# Altium footprint library SD Card.PcbLib: 2 footprints
Each footprint in its own frame and in the unit in brackets; x right, y up, seen from the top. Pads: shape width x height; smd on the part's side, far side on the other; paste and mask are expansions set on the pad; w line width, h text height; cw(c..) or ccw(c..) is an arc to the next point about the centre after c.
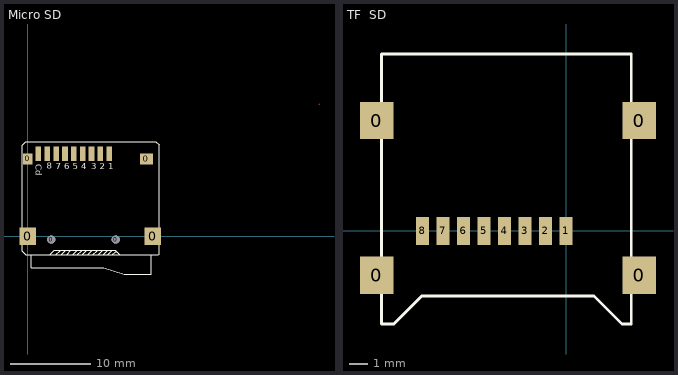
[diagram p0: the footprints below, top view; thin cyan lines are the x and y axes]

## Micro SD [mm]
pads (15):
  rect 2.032x2.2 smd: 0(0,0) 0(15.5,0)
  rect 1.2x1.4 smd: 0(0,9.6)
  round 1 hole 1 unplated: 0(2.9,-0.4) 0(10.9,-0.4)
  rect 1.6x1.4 smd: 0(14.7,9.6)
  rect 0.7x1.8 smd: 1(10.1,10.227) 2(9,10.227) 3(7.9,10.227) 4(6.8,10.227) 5(5.7,10.227) 6(4.6,10.227) 7(3.5,10.227) 8(2.4,10.227) 9(1.3,10.227)
Top Layer:
  lines w0.03: 36.064,16.423 36.114,16.373
Top Overlay:
  lines w0.152: 0.423,-2.295 0.423,-3.87 9.414,-3.87 ; 3.471,-2.295 4.004,-1.762 4.004,-1.736 ; 4.131,-2.295 4.639,-1.787 4.639,-1.736 ; 4.868,-2.295 4.868,-2.219 5.35,-1.736 ; 5.553,-2.295 6.112,-1.736 6.138,-1.736 ; 6.138,-2.295 6.671,-1.762 6.671,-1.736 ; 6.773,-2.295 7.331,-1.736 7.433,-1.736 ; 7.433,-2.295 7.992,-1.736 8.017,-1.736 ; 8.068,-2.295 8.601,-1.762 8.601,-1.736 ; 8.703,-2.295 9.262,-1.736 9.389,-1.736 ; 9.338,-2.295 9.897,-1.736 9.922,-1.736 ; 9.389,-3.87 11.954,-4.683 15.307,-4.683 15.307,-2.321 ; 9.922,-2.295 10.481,-1.736 ; 10.481,-2.295 10.887,-1.889 10.964,-1.889 ; -0.289,-2.295 -0.72,-1.863 -0.72,11.319 -0.289,11.751 15.891,11.751 16.272,11.37 16.272,-2.194 16.171,-2.295 ; -0.289,-2.295 16.171,-2.295 ; -0.289,-2.295 2.709,-2.295 3.267,-1.736 10.811,-1.736 11.37,-2.295 16.171,-2.295
  text "Cd" at 0.981,8.932 h0.76
  text "8" at 2.328,8.373 h0.76
  text "7" at 3.445,8.347 h0.76
  text "6" at 4.512,8.347 h0.76
  text "5" at 5.579,8.347 h0.76
  text "4" at 6.646,8.322 h0.76
  text "3" at 7.839,8.322 h0.76
  text "2" at 8.906,8.322 h0.76
  text "1" at 9.998,8.297 h0.76
3D body "sdcard.STEP": height 1.8, standoff -0.7, extent -0.272,-4.625 16.001,10.569

## TF  SD [mm]
pads (12):
  rect 1.8x2 smd: 0(-10.168,-2.378) 0(-10.168,5.922) 0(3.932,-2.378) 0(3.932,5.922)
  rect 0.7x1.5 smd: 1(0,0) 2(-1.1,0) 3(-2.2,0) 4(-3.3,0) 5(-4.4,0) 6(-5.5,0) 7(-6.6,0) 8(-7.7,0)
Top Overlay:
  lines w0.152: -9.9,-5 -9.9,9.5 0,9.5 3.5,9.5 3.5,-5 3,-5 1.5,-3.5 -7.75,-3.5 -9.25,-5 -9.9,-5
3D body "User Library-5009010801.STEP": height 1.93, standoff -0.02, extent -10.5,-5 4.1,9.5